# EAGLE library part ADM101 (library AnalogDevices)
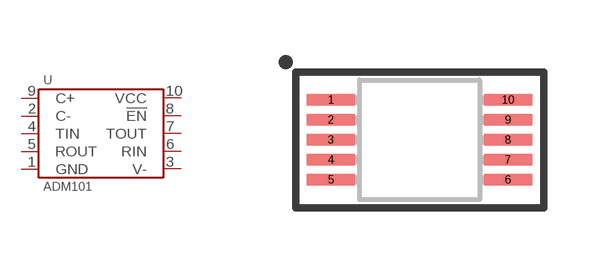
[diagram p0: symbol with the pads of MSOP-10; footprint MSOP-10]

Designator prefix U

## ADM101E  [MSOP-10]
1  GND
2  C-
3  V-
4  TIN
5  ROUT
6  RIN
7  TOUT
8  !EN
9  C+
10  VCC

## Footprint MSOP-10 (pad centres in mm)
smd 1.2 x 0.29: 1 -2.213,1; 2 -2.213,0.5; 3 -2.213,0; 4 -2.213,-0.5; 5 -2.213,-1; 6 2.213,-1; 7 2.213,-0.5; 8 2.213,0; 9 2.213,0.5; 10 2.213,1